# Altium schematic symbol library PCC.SchLib: 5 symbols
Pins are listed as number, name and electrical type; pins without a type are passive.

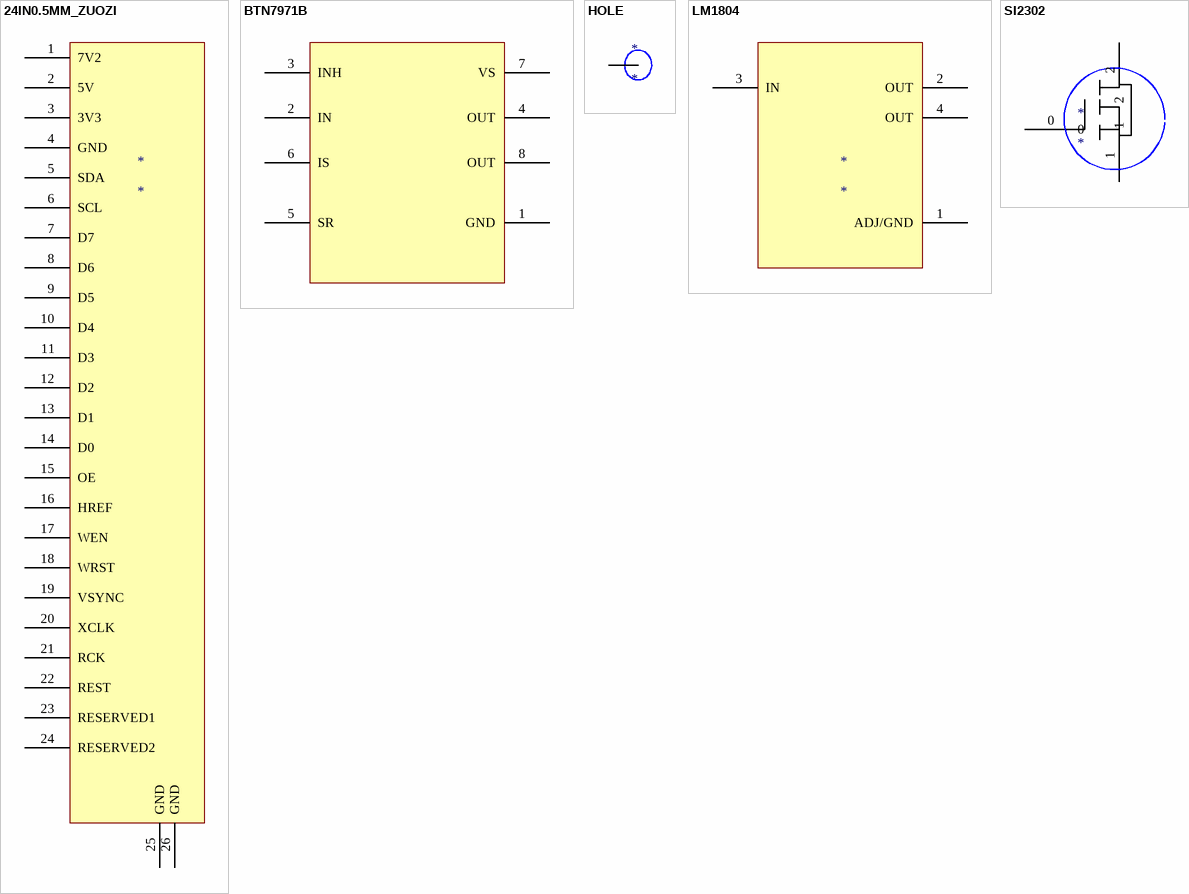
[diagram p0: symbols 24IN0.5MM_ZUOZI to SI2302]

## 24IN0.5MM_ZUOZI
designator *
footprint 24PIN0.5MM_ZUOZI
pins: 1 7V2, 2 5V, 3 3V3, 4 GND, 5 SDA, 6 SCL, 7 D7, 8 D6, 9 D5, 10 D4, 11 D3, 12 D2, 13 D1, 14 D0, 15 OE, 16 HREF, 17 WEN, 18 WRST, 19 VSYNC, 20 XCLK, 21 RCK, 22 REST, 23 RESERVED1, 24 RESERVED2, 25 GND, 26 GND

## BTN7971B
designator ?
footprint TO127P1500X440-7N (D2-PAK, 7-Pads, Body 9.3x10.0mm (max), IPC Medium Density)
pins: 1 GND, 2 IN, 3 INH, 4 OUT, 5 SR, 6 IS, 7 VS, 8 OUT

## HOLE
designator *
footprint HOLE

## LM1804
designator *
footprint LM1804 (SOT223, 4-Leads, Body 6.7x32.9mm (max), Pitch 2.50mm, IPC Medium Density)
pins: 1 ADJ/GND, 2 OUT, 3 IN, 4 OUT

## SI2302
designator *
pins: 0, 1, 2